# Altium schematic symbol library SWReg.SchLib: 12 symbols
Pins are listed as number, name and electrical type; pins without a type are passive.

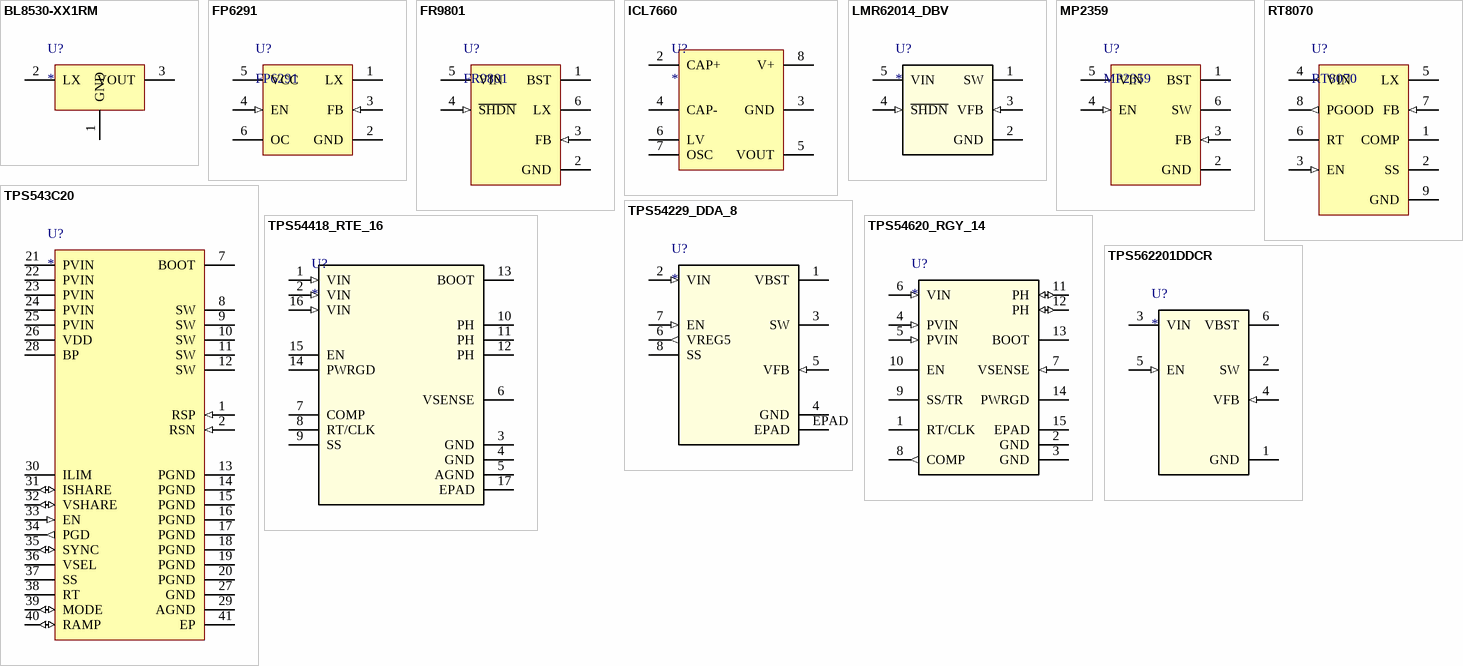
[diagram p0: symbols BL8530-XX1RM to TPS562201DDCR]

## BL8530-XX1RM
designator U?
PFM Boost converter
footprint BL8530-XX1RM
pins: 1 GND (power), 2 LX, 3 VOUT

## FP6291
designator U?
1MHz,2.5A Step-Up Current Mode PWM Converter
footprint SOT23-6 (SOT-23/SC-74A; 5 Leads; Body 3.1 x 3 mm, inc. leads (LxW max))
pins: 1 LX, 2 GND (power), 3 FB (in), 4 EN (in), 5 VCC (power), 6 OC

## FR9801
designator U?
21V, 1.8A, 600KHz Synchronous Step-Down DC/DC Converter
footprint SOT23-6 (SOT-23/SC-74A; 5 Leads; Body 3.1 x 3 mm, inc. leads (LxW max))
pins: 1 BST, 2 GND (power), 3 FB (in), 4 ~{SHDN} (in), 5 VIN (power), 6 LX

## ICL7660
designator U?
CMOS Voltage Converters
footprint ICL7660_SOP8 (SOP, 8-Leads, Body 4.90x3.90mm, Pitch 1.27mm, IPC Medium Density)
pins: 2 CAP+, 3 GND, 4 CAP-, 5 VOUT, 6 LV, 7 OSC, 8 V+

## LMR62014_DBV
designator U?
SIMPLE SWITCHER® 20Vout, 1.4A Step-Up Voltage Regulator in SOT-23; PartNumber: LMR62014_DBV; Manufacturer: Texas Instruments; CompType: IC; PIN_COUNT: 5; Application_BuildNumber: *; PackageReference: MF05A; MountType: SMT; RefDes: RefDes; TYPE: TYPE; Value: Value
footprint MF05A_N (Footprint not found)
pins: 1 SW (power), 2 GND (power), 3 VFB (in), 4 ~{SHDN} (in), 5 VIN (power)

## MP2359
designator U?
1.2A, 24V, 1.4MHz Step-Down Converter in a TSOT23-6
footprint SOT23-6 (SOT-23/SC-74A; 5 Leads; Body 3.1 x 3 mm, inc. leads (LxW max))
pins: 1 BST, 2 GND (power), 3 FB (in), 4 EN (in), 5 VIN (power), 6 SW

## RT8070
designator U?
4A, 2MHz, Synchronous Step-Down Converter
footprint WDFN-8L3X3
pins: 1 COMP, 2 SS, 3 EN (in), 4 VIN (power), 5 LX, 6 RT, 7 FB (in), 8 PGOOD (out), 9 GND (power)

## TPS543C20
designator U?
4-VIN to 16-VIN, 40-A Stackable, Synchronous Step-Down SWIFT™ Converter With Adaptive Internal Compensation
footprint RVF0040A (Footprint not found)
pins: 1 RSP (in), 2 RSN (in), 7 BOOT, 8 SW, 9 SW, 10 SW, 11 SW, 12 SW, 13 PGND (power), 14 PGND (power), 15 PGND (power), 16 PGND (power), 17 PGND (power), 18 PGND (power), 19 PGND (power), 20 PGND (power), 21 PVIN (power), 22 PVIN (power), 23 PVIN (power), 24 PVIN (power), 25 PVIN (power), 26 VDD (power), 27 GND (power), 28 BP (power), 29 AGND (power), 30 ILIM, 31 ISHARE (io), 32 VSHARE (io), 33 EN (in), 34 PGD (out), 35 SYNC (io), 36 VSEL, 37 SS, 38 RT, 39 MODE (io), 40 RAMP (io), 41 EP (power)

## TPS54229_DDA_8
designator U?
4.5V to 18V INPUT, 2-A SYNCHRONOUS STEP DOWN CONVERTER WITH INTEGRATED FET; Manufacturer_Part_Number: tps54229_dda_8; GENERIC_PART_NUMBER: TPS54229; Vendor: Texas Instruments; PACKAGE_DESIGNATOR: DDA; PIN_COUNT: 8; FAMILY_NAME: STEP-DOWN REGULATOR; INDUSTRY_STD_PKG_TYPE: SO PowerPAD; Manufacturer: Texas Instruments; Datasheet_URL: http://www.ti.com/lit/gpn/TPS54229; Value: Value; Type: Type; RefDes: RefDes
footprint DDA8_3P1X2P4
pins: 1 VBST, 2 VIN (in), 3 SW, 4 GND (power), 5 VFB (in), 6 VREG5 (out), 7 EN (in), 8 SS, EPAD

## TPS54418_RTE_16
designator U?
2.95-V to 6-V Input, 4-A Output, 2-MHz , Synchronous Step-Down Switcher With Integrated FETs (SWIFT™); Manufacturer_Part_Number: tps54418_rte_16; GENERIC_PART_NUMBER: TPS54418; Vendor: Texas Instruments; PACKAGE_DESIGNATOR: RTE; PIN_COUNT: 16; FAMILY_NAME: STEP-DOWN REGULATOR; INDUSTRY_STD_PKG_TYPE: WQFN; Manufacturer: Texas Instruments; Datasheet_URL: http://www.ti.com/lit/gpn/TPS54418; Value: Value; Type: Type; RefDes: RefDes
footprint RTE16_1P7X1P7
pins: 1 VIN (in), 2 VIN (in), 3 GND (power), 4 GND (power), 5 AGND (power), 6 VSENSE, 7 COMP, 8 RT/CLK, 9 SS, 10 PH, 11 PH, 12 PH, 13 BOOT, 14 PWRGD (oc), 15 EN, 16 VIN (in), 17 EPAD

## TPS54620_RGY_14
designator U?
Buck Step Down Regulator with 4.5 to 17 V Input and 0.8 to 15 V Output, -40 to 150 degC, 14-Pin VQFN (RGY), Green (RoHS & no Sb/Br); Manufacturer_Part_Number: tps54620_rgy_14; GENERIC_PART_NUMBER: TPS54620; Vendor: Texas Instruments; PIN_COUNT: 14; FAMILY_NAME: STEP-DOWN REGULATOR; Manufacturer: Texas Instruments; PACKAGE_DESIGNATOR: RGY; INDUSTRY_STD_PKG_TYPE: VQFN; Datasheet_URL: http://www.ti.com/lit/gpn/TPS54620; Value: Value; Type: Type; RefDes: RefDes
footprint RGY14_2P05X2P05
pins: 1 RT/CLK, 2 GND (power), 3 GND (power), 4 PVIN (in), 5 PVIN (in), 6 VIN (in), 7 VSENSE (in), 8 COMP (out), 9 SS/TR, 10 EN, 11 PH (io), 12 PH (io), 13 BOOT, 14 PWRGD (power), 15 EPAD

## TPS562201DDCR
designator U?
4.5-V to 17-V Input, 2-A Synchronous Step-Down Voltage Regulator in 6-Pin SOT-23; PartNumber: TPS562201DDCR; Manufacturer: Texas Instruments; CompType: IC; PIN_COUNT: 6; Application_BuildNumber: *; PackageReference: DDC0006A; MountType: SMT; RefDes: RefDes; TYPE: TYPE; Value: Value
footprint DDC0006A_N
pins: 1 GND (power), 2 SW (power), 3 VIN (power), 4 VFB (in), 5 EN (in), 6 VBST (power)